# EAGLE library part PARTICLE-STUDIOS_M_SERIES_M.2KEY (library M.2 SoM breakout board V1.0)
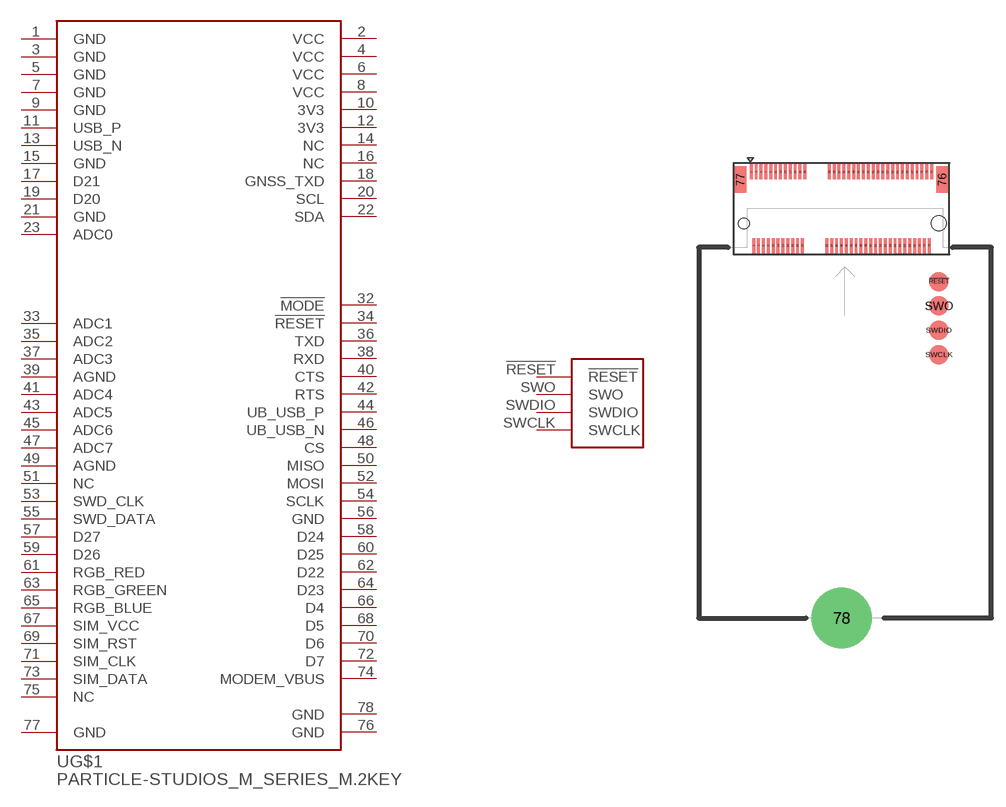
[diagram p2: symbol with the pads of PARTICLE-STUDIOS_PARTICLE_M.2EKEY_3.65MM_DRILL; footprint PARTICLE-STUDIOS_PARTICLE_M.2EKEY_3.65MM_DRILL]

Designator prefix -; gates G$1=PARTICLE-STUDIOS_M_SERIES_M.2EKEY G$2=PARTICLE-STUDIOS_B_SERIES_SWD

## PARTICLE-STUDIOS_M_SERIES_M.2KEY  [PARTICLE-STUDIOS_PARTICLE_M.2EKEY_3.65MM_DRILL]
1  G$1:GND  pwr
2  G$1:VCC  pwr
3  G$1:GND  pwr
4  G$1:VCC  pwr
5  G$1:GND  pwr
6  G$1:VCC  pwr
7  G$1:GND  pwr
8  G$1:VCC  pwr
9  G$1:GND  pwr
10  G$1:3V3  pwr
11  G$1:USB_P
12  G$1:3V3  pwr
13  G$1:USB_N
14  G$1:NC
15  G$1:GND  pwr
16  G$1:NC  pwr
17  G$1:D21
18  G$1:GNSS_TXD
19  G$1:D20
20  G$1:SCL
21  G$1:GND  pwr
22  G$1:SDA
23  G$1:ADC0
32  G$1:!MODE
33  G$1:ADC1
34  G$1:!RESET
35  G$1:ADC2
36  G$1:TXD
37  G$1:ADC3
38  G$1:RXD
39  G$1:AGND  pwr
40  G$1:CTS
41  G$1:ADC4
42  G$1:RTS
43  G$1:ADC5
44  G$1:UB_USB_P
45  G$1:ADC6
46  G$1:UB_USB_N
47  G$1:ADC7
48  G$1:CS
49  G$1:AGND  pwr
50  G$1:MISO
51  G$1:NC
52  G$1:MOSI
53  G$1:SWD_CLK
54  G$1:SCLK
55  G$1:SWD_DATA
56  G$1:GND  pwr
57  G$1:D27
58  G$1:D24
59  G$1:D26
60  G$1:D25
61  G$1:RGB_RED
62  G$1:D22
63  G$1:RGB_GREEN
64  G$1:D23
65  G$1:RGB_BLUE
66  G$1:D4
67  G$1:SIM_VCC  pwr
68  G$1:D5
69  G$1:SIM_RST
70  G$1:D6
71  G$1:SIM_CLK
72  G$1:D7
73  G$1:SIM_DATA
74  G$1:MODEM_VBUS  pwr
75  G$1:NC
76  G$1:GND  pwr
77  G$1:GND  pwr
78  G$1:GND  pwr
!RESET  G$2:!RESET  sup
SWCLK  G$2:SWCLK  sup
SWDIO  G$2:SWDIO  sup
SWO  G$2:SWO  sup

## Footprint PARTICLE-STUDIOS_PARTICLE_M.2EKEY_3.65MM_DRILL (pad centres in mm)
3042 M.2 Connector with E Key Width = 30mm Length = 42mm Height = 4.2mm Key = E Mounting hole = 3.65mm
smd 0.3 x 1.55: 1 -9.62,3.735; 2 -9.37,-3.815; 3 -9.12,3.735; 4 -8.87,-3.815; 5 -8.62,3.735; 6 -8.37,-3.815; 7 -8.12,3.735; 8 -7.87,-3.815; 9 -7.62,3.735; 10 -7.37,-3.815; 11 -7.12,3.735; 12 -6.87,-3.815; 13 -6.62,3.735; 14 -6.37,-3.815; 15 -6.12,3.735; 16 -5.87,-3.815; 17 -5.62,3.735; 18 -5.37,-3.815; 19 -5.12,3.735; 20 -4.87,-3.815; 21 -4.62,3.735; 22 -4.37,-3.815; 23 -4.12,3.735; 32 -1.87,-3.815; 33 -1.62,3.735; 34 -1.37,-3.815; 35 -1.12,3.735; 36 -0.87,-3.815; 37 -0.62,3.735; 38 -0.37,-3.815; 39 -0.12,3.735; 40 0.13,-3.815; 41 0.38,3.735; 42 0.63,-3.815; 43 0.88,3.735; 44 1.13,-3.815; 45 1.38,3.735; 46 1.63,-3.815; 47 1.88,3.735; 48 2.13,-3.815; 49 2.38,3.735; 50 2.63,-3.815; 51 2.88,3.735; 52 3.13,-3.815; 53 3.38,3.735; 54 3.63,-3.815; 55 3.88,3.735; 56 4.13,-3.815; 57 4.38,3.735; 58 4.63,-3.815; 59 4.88,3.735; 60 5.13,-3.815; 61 5.38,3.735; 62 5.63,-3.815; 63 5.88,3.735; 64 6.13,-3.815; 65 6.38,3.735; 66 6.63,-3.815; 67 6.88,3.735; 68 7.13,-3.815; 69 7.38,3.735; 70 7.63,-3.815; 71 7.88,3.735; 72 8.13,-3.815; 73 8.38,3.735; 74 8.63,-3.815; 75 8.88,3.735
smd 1.2 x 2.75: 76 9.98,2.96; 77 -10.72,2.96
drill 3.65 pad 6.2: 78 -0.351,-42
smd 2 x 2: !RESET 9.63,-7.5; SWCLK 9.63,-15; SWDIO 9.63,-12.5; SWO 9.63,-10
hole 1.1 at -10.37,-1.54
hole 1.55 at 9.63,-1.54